# Altium schematic symbol library STMicroelectronics.SchLib: 2 symbols
Pins are listed as number, name and electrical type; pins without a type are passive.

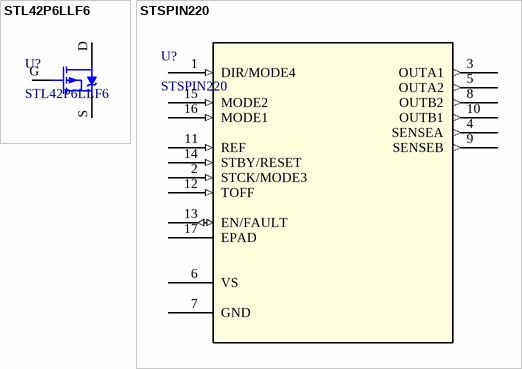
[diagram p0: symbols STL42P6LLF6 to STSPIN220]

## STL42P6LLF6
designator U?
P-channel -60 V, 23 mΩ typ., -42 A STripFET F6 / Power MOSFET in a PowerFLAT 5x6 package
footprint PowerFLAT 5x6
pins: D, G, S

## STSPIN220
designator U?
Low voltage stepper motor driver; SourceLibrary: Update_to_database_2020-12-04; Built_By: EMA_Jessica; Vendor: STMicroelectronics; Copyright: Copyright (C) 2018 Accelerated Designs. All rights reserved; Manufacturer_Part_Number: STSPIN220; RefDes: RefDes; Type: DEV
footprint VFQFPN-16_STM
footprint VFQFPN-16_STM-L
footprint VFQFPN-16_STM-M
pins: 1 DIR/MODE4 (in), 2 STCK/MODE3 (in), 3 OUTA1 (out), 4 SENSEA (out), 5 OUTA2 (out), 6 VS (power), 7 GND (power), 8 OUTB2 (out), 9 SENSEB (out), 10 OUTB1 (out), 11 REF (in), 12 TOFF (in), 13 EN/FAULT (io), 14 STBY/RESET (in), 15 MODE2 (in), 16 MODE1 (in), 17 EPAD